# EAGLE library part 2716-105 (library con-wago_2716)
Serie 2716, Klemmenleiste für Leiterplatten 4 Lötstifte/Pol / Series 2716, PCB terminal strip 4 solder pins/pole Polzahl / Pole No.: 5 Bemessungsspannung / Rated Voltage: 320 V Nennstrom / Nominal Current: 76 A Leiterquerschnitt / Conductor Size: 1.5 - 16 mm² Anschlusstechnik / Connection Technology: CAGE CLAMP® Lötstiftlänge: / Solder Pin Length: 4.5 mm Leitereinführung (zur Platine) / Conductor entry angle (to PCB): 30 ° Farbe / Color: grau / gray Stand: 01.01.2012. Die jeweils aktuellen Daten zu diesem Artikel finden Sie in unserem Produktkatalog, den Sie unter www.wago.com einsehen können. As of: 01/01/2012. Please find the newest data for this article in our product catalogue, which can be viewed under www.wago.com.
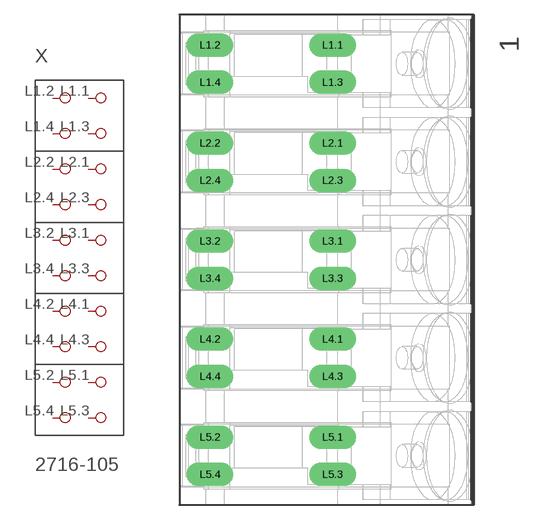
[diagram p3: symbol with the pads of P-2716-105; footprint P-2716-105]

Designator prefix X

## 2716-105  [P-2716-105]
L1.1  P1.1
L1.2  P1.2
L1.3  P1.3
L1.4  P1.4
L2.1  P2.1
L2.2  P2.2
L2.3  P2.3
L2.4  P2.4
L3.1  P3.1
L3.2  P3.2
L3.3  P3.3
L3.4  P3.4
L4.1  P4.1
L4.2  P4.2
L4.3  P4.3
L4.4  P4.4
L5.1  P5.1
L5.2  P5.2
L5.3  P5.3
L5.4  P5.4

## Footprint P-2716-105 (pad centres in mm)
drill 1.6 long: L1.1 0.6,21.9; L1.2 -11.9,21.9; L1.3 0.6,18.1; L1.4 -11.9,18.1; L2.1 0.6,11.9; L2.2 -11.9,11.9; L2.3 0.6,8.1; L2.4 -11.9,8.1; L3.1 0.6,1.9; L3.2 -11.9,1.9; L3.3 0.6,-1.9; L3.4 -11.9,-1.9; L4.1 0.6,-8.1; L4.2 -11.9,-8.1; L4.3 0.6,-11.9; L4.4 -11.9,-11.9; L5.1 0.6,-18.1; L5.2 -11.9,-18.1; L5.3 0.6,-21.9; L5.4 -11.9,-21.9